# Altium schematic symbol library switch.SchLib: 5 symbols
Pins are listed as number, name and electrical type; pins without a type are passive.

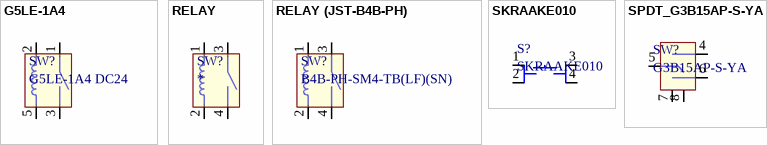
[diagram p0: symbols G5LE-1A4 to SPDT_G3B15AP-S-YA]

## G5LE-1A4
designator SW?, comment G5LE-1A4 DC24
RELAY GEN PURPOSE SPST 10A 24V; Manufacturer 1: Omron Electronics Inc-EMC Div; Manufacturer Part Number 1: G5LE-1A4 DC24; Supplier 1: Digi-Key; Supplier Part Number 1: Z2254-ND
footprint G5LE-1A4
pins: 1, 2, 3, 5

## RELAY
designator SW?
Manufacturer 1: *; Manufacturer Part Number 1: *; Supplier 1: *; Supplier Part Number 1: *
pins: 1, 2, 3, 4

## RELAY (JST-B4B-PH)
designator SW?, comment B4B-PH-SM4-TB(LF)(SN)
CONN HEADER SMD 4POS 2MM; Manufacturer 1: JST Sales America Inc.; Manufacturer Part Number 1: B4B-PH-SM4-TB(LF)(SN); Supplier 1: Digi-Key; Supplier Part Number 1: 455-1736-1-ND
footprint 4P_P2_B4B-PH-SM4-TB
pins: 1, 2, 3, 4

## SKRAAKE010
designator S?
PushButton; Manufacturer 1: Alps Alpine; Manufacturer Part Number 1: SKRAAKE010; Supplier 1: jp.rs-online.com; Supplier Part Number 1: 758-2073P; ComponentLink1Description: Purchase; ComponentLink1URL: https://jp.rs-online.com/web/p/tactile-switches/7582073P/?ef_id=Cj0KCQiA_rfvBRCPARIsANlV66M5Cd_LxpFp0N3PzBsbDOX4JsGYYLC54gb-WedMjS_D6xrFFoyEcx4aAvKjEALw_wcB:G:s&s_kwcid=AL!8737!3!404302715465!b!!g!!&cm_mmc=JP-PPC-DS3A-_-google-_-DSA_JP_JP_Switches_New-_-Tactile_Switches_Accessories%7CTactile_Switches%7CProducts-_-DYNAMIC+SEARCH+ADS&matchtype=b&aud-386392067024:dsa-724337075973&gclid=Cj0KCQiA_rfvBRCPARIsANlV66M5Cd_LxpFp0N3PzBsbDOX4JsGYYLC54gb-WedMjS_D6xrFFoyEcx4aAvKjEALw_wcB&gclsrc=aw.ds
footprint SKRAAKE010
pins: 1, 2, 3, 4

## SPDT_G3B15AP-S-YA
designator SW?, comment G3B15AP-S-YA
SWITCH PUSH SPDT 0.4VA 28V; Manufacturer 1: NKK Switches; Manufacturer Part Number 1: G3B15AP-S-YA; Supplier 1: Digi-Key; Supplier Part Number 1: G3B15AP-S-YA-ND
footprint SPDT_G3B15AP-S-YA
pins: 4, 5, 6, 7, 8